# EAGLE library part MPXV (library MakeItLabs)
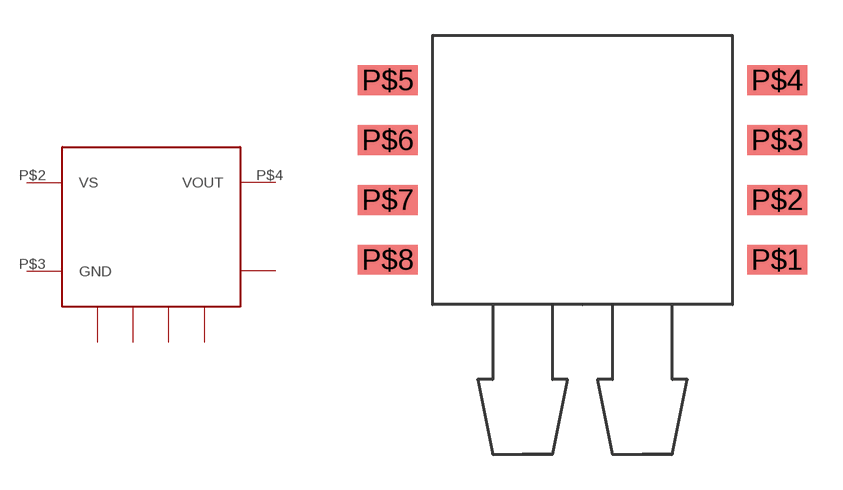
[diagram p4: symbol with the pads of DUAL_PORT_PRESSURE; footprint DUAL_PORT_PRESSURE]

Designator prefix -

## MPXV  [DUAL_PORT_PRESSURE]
P$1  P$4  nc
P$2  VS  pwr
P$3  GND  pwr
P$4  VOUT
P$5  P$5  nc
P$6  P$6  nc
P$7  P$7  nc
P$8  P$8  nc

## Footprint DUAL_PORT_PRESSURE (pad centres in mm)
smd 2.54 x 1.27: P$1 8.255,-3.81; P$2 8.255,-1.27; P$3 8.255,1.27; P$4 8.255,3.81; P$5 -8.255,3.81; P$6 -8.255,1.27; P$7 -8.255,-1.27; P$8 -8.255,-3.81